# Altium footprint library Trap_PCB_V3.3.PcbLib: 21 footprints (part 1 of 2)
Each footprint in its own frame and in the unit in brackets; x right, y up, seen from the top. Pads: shape width x height; smd on the part's side, far side on the other; paste and mask are expansions set on the pad; w line width, h text height; cw(c..) or ccw(c..) is an arc to the next point about the centre after c.
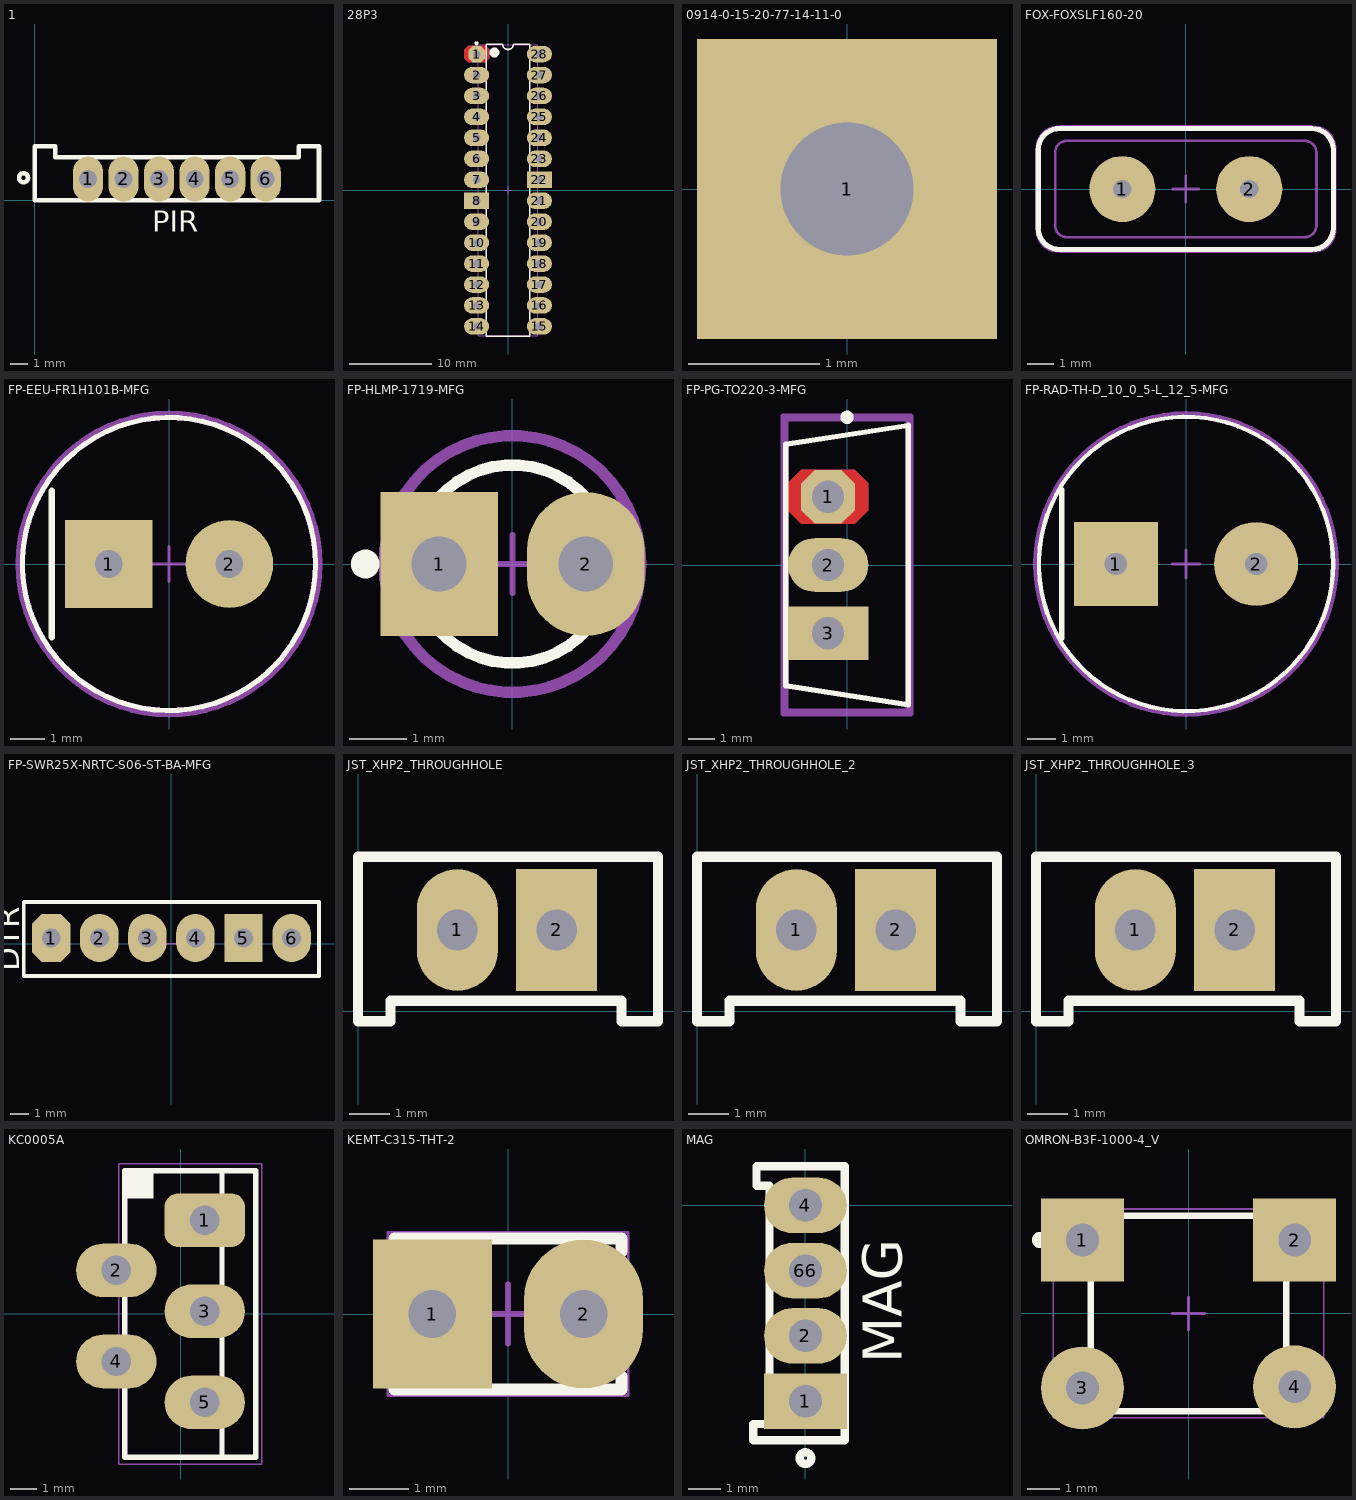
[diagram p0: the footprints below, top view; thin cyan lines are the x and y axes]

## 1 [mm]
pads (6):
  oval 1.7x2.54 hole 1: 1(3,1.2) 2(5,1.2) 3(7,1.2) 4(9,1.2) 5(11,1.2) 6(13,1.2)
Top Overlay:
  circle w0.254: c-0.635,1.27 r0.254
  lines w0.254: 0,0 16.002,0 16.002,3.048 14.859,3.048 14.859,2.413 1.143,2.413 1.143,3.048 0,3.048 0,0
  text "PIR" at 6.604,-1.778 h1.2

## 28P3 [mm] "28-Pin Plastic Dual In-Line Package (PDIP)"
height 4.58
pads (28):
  oct 2x2 hole 0.9: 1(-3.81,16.51)
  oval 3.048x2 hole 0.9: 2(-3.81,13.97) 3(-3.81,11.43) 4(-3.81,8.89) 5(-3.81,6.35) 6(-3.81,3.81) 7(-3.81,1.27) 9(-3.81,-3.81) 10(-3.81,-6.35) 11(-3.81,-8.89) 12(-3.81,-11.43) 13(-3.81,-13.97) 14(-3.81,-16.51) 15(3.81,-16.51) 16(3.81,-13.97) 17(3.81,-11.43) 18(3.81,-8.89) 19(3.81,-6.35) 20(3.81,-3.81) 21(3.81,-1.27) 23(3.81,3.81) 24(3.81,6.35) 25(3.81,8.89) 26(3.81,11.43) 27(3.81,13.97) 28(3.81,16.51)
  rect 3.048x2 hole 0.9: 8(-3.81,-1.27) 22(3.81,1.27)
Top Layer:
  region: -4.834,15.51 -5.334,16.01 -5.334,17.01 -4.834,17.51 -2.786,17.51 -2.286,17.01 -2.286,16.01 -2.786,15.51
Bottom Layer:
  region: -4.834,15.51 -5.334,16.01 -5.334,17.01 -4.834,17.51 -2.786,17.51 -2.286,17.01 -2.286,16.01 -2.786,15.51
Top Overlay:
  circle w0.25: c-3.81,17.81 r0.125
  circle w0.6: c-1.65,16.7 r0.3
  lines w0.2: -2.65,-17.7 -2.65,17.7 -0.635,17.7 ccw(c0,17.7) 0.635,17.7 2.65,17.7 2.65,-17.7 -2.65,-17.7
Top 3D Body:
  circle w0.1: c-2.7,16.75 r0.5
  lines w0.1: -3.6,-17.65 -3.6,17.65 3.6,17.65 3.6,-17.65 -3.6,-17.65
Mechanical 15:
  lines w0.1: -0.5,0 0.5,0 ; 0,-0.5 0,0.5
3D body: height 4.58, standoff 0, extent -3.6,-17.65 3.6,17.65

## 0914-0-15-20-77-14-11-0 [mil]
height 275.59
pads (1):
  rect 90x90 hole 40: 1(0,0)
3D body "pogo pin 5mm.stp": height 197.17, standoff -39.06, extent -39.37,-39.37 39.37,39.24

## FOX-FOXSLF160-20 [mm] "THD, 2-Leads, Body 11.35x4.65mm"
height 3.6
pads (2):
  round 2.54 hole 0.7: 1(-2.44,0) 2(2.44,0)
Top Overlay:
  lines w0.2: -5.675,-1.5 ccw(c-4.85,-1.5) -4.85,-2.325 4.85,-2.325 ccw(c4.85,-1.5) 5.675,-1.5 5.675,1.5 ccw(c4.85,1.5) 4.85,2.325 -4.85,2.325 ccw(c-4.85,1.5) -5.675,1.5 -5.675,-1.5 ; -5.675,-1.5 -5.675,-1.5
Top 3D Body:
  lines w0.1: -5.675,-1.5 ccw(c-4.85,-1.5) -4.85,-2.325 4.85,-2.325 ccw(c4.85,-1.5) 5.675,-1.5 5.675,1.5 ccw(c4.85,1.5) 4.85,2.325 -4.85,2.325 ccw(c-4.85,1.5) -5.675,1.5 -5.675,-1.5 ; -5.675,-1.5 -5.675,-1.5 ; -5.025,-1.4 ccw(c-4.575,-1.4) -4.575,-1.85 4.575,-1.85 ccw(c4.575,-1.4) 5.025,-1.4 5.025,1.4 ccw(c4.575,1.4) 4.575,1.85 -4.575,1.85 ccw(c-4.575,1.4) -5.025,1.4 -5.025,-1.4
Mechanical 15:
  lines w0.05: -4.85,2.425 4.85,2.425 cw(c4.9,1.55) 5.775,1.6 5.775,-1.599 cw(c4.9,-1.549) 4.869,-2.425 ; -4.831,2.425 ccw(c-4.881,1.55) -5.756,1.6 -5.756,-1.599 ccw(c-4.881,-1.549) -4.85,-2.425 4.85,-2.425
  lines w0.1: -0.5,0 0.5,0 ; 0,-0.5 0,0.5

## FP-EEU-FR1H101B-MFG [mm]
pads (2):
  rect 2.54x2.54 hole 0.8 paste-1000 mask+0: 1(-1.75,0)
  round 2.54 hole 0.8 paste-1000 mask+0: 2(1.75,0)
Top Overlay:
  circle w0.15: c0,0 r4.25
  lines w0.2: -3.4,-2.125 -3.4,2.125
Top Courtyard:
  lines w0.2: -4.35,0 cw(c0,0) 4.35,0 cw(c0,0) -4.35,0
Top Assembly:
  text ".Designator" at 0,0.225 h1.2
Top 3D Body:
  circle w0.15: c0,0 r4.25
Top Component Center:
  lines w0.1: -0.5,0 0.5,0 ; 0,-0.5 0,0.5

## FP-HLMP-1719-MFG [mm]
pads (2):
  rect 2.032x2.5 hole 0.95 paste-1000 mask+0: 1(-1.27,0)
  oval 2.032x2.5 hole 0.95 paste-1000 mask+0: 2(1.27,0)
Top Overlay:
  circle w0.25: c-2.55,0 r0.125
  lines w0.2: -1.3,-1.12 ccw(c0,-0.001) 1.3,-1.12 ; -1.3,1.12 cw(c0,0.001) 1.3,1.12
Top Courtyard:
  lines w0.2: -2.223,0 cw(c0,0) 2.223,0 cw(c0,0) -2.223,0
Top Assembly:
  text ".Designator" at 0,0.225 h1.2
Top 3D Body:
  circle w0.15: c0,0 r1.715
Top Component Center:
  lines w0.1: -0.5,0 0.5,0 ; 0,-0.5 0,0.5

## FP-PG-TO220-3-MFG [mm]
height 7
pads (3):
  oct 2x2 hole 1.2 paste-1000 mask+0: 1(-0.705,2.54)
  oval 3x2 hole 1.2 paste-1000 mask+0: 2(-0.705,0)
  rect 3x2 hole 1.2 paste-1000 mask+0: 3(-0.705,-2.54)
Top Layer:
  region: -1.705,1.54 -2.205,2.04 -2.205,3.04 -1.705,3.54 0.295,3.54 0.795,3.04 0.795,2.04 0.295,1.54
Bottom Layer:
  region: -1.705,1.54 -2.205,2.04 -2.205,3.04 -1.705,3.54 0.295,3.54 0.795,3.04 0.795,2.04 0.295,1.54
Top Overlay:
  circle w0.25: c0,5.5 r0.125
  lines w0.2: -2.275,-4.5 2.275,-5.2 2.275,5.2 -2.275,4.5 -2.275,-4.5
Top Courtyard:
  lines w0.2: -2.375,-5.55 2.375,-5.55 2.375,5.55 -2.375,5.55 -2.375,-5.55
Top Assembly:
  lines w0.2: -2.375,-5.55 2.375,-5.55 2.375,5.55 -2.375,5.55 -2.375,-5.55
  text ".Designator" at 0,-0.001 h1
Top 3D Body:
  lines w0.2: -2.275,-5.45 2.275,-5.45 2.275,5.45 -2.275,5.45 -2.275,-5.45
Top Component Center:
  lines w0.1: -0.5,0 0.5,0 ; 0,-0.5 0,0.5
3D body "Trans_Infineon_IRL2505PBF_eec.STEP": height 0.25, standoff 0, extent -2.375,-5.55 2.375,5.55

## FP-RAD-TH-D_10_0_5-L_12_5-MFG [mm]
height 7.87
pads (2):
  rect 3x3 hole 0.8 paste-1000 mask+0: 1(-2.5,0)
  round 3 hole 0.8 paste-1000 mask+0: 2(2.5,0)
Top Overlay:
  circle w0.15: c0,0 r5.25
  lines w0.2: -4.425,-2.65 -4.425,2.65
Top Courtyard:
  lines w0.2: -5.35,0 ccw(c0,0) 5.35,0 ccw(c0,0) -5.35,0
Top Assembly:
  text ".Designator" at 0,0.188 h1
Top 3D Body:
  circle w0.15: c0,0 r5.25
Top Component Center:
  lines w0.1: -0.5,0 0.5,0 ; 0,-0.5 0,0.5
3D body "Cap_Panasonic_EEUTA1H101_eec.STEP": height 0.25, standoff 0, extent -5.35,-5.35 5.35,5.35

## FP-SWR25X-NRTC-S06-ST-BA-MFG [mm]
pads (6):
  oct 2.032x2.54 hole 1 paste-1000 mask+0: 1(-6.35,0.3)
  oval 2.032x2.54 hole 1 paste-1000 mask+0: 2(-3.81,0.3) 3(-1.27,0.3) 4(1.27,0.3) 6(6.35,0.3)
  rect 2.032x2.54 hole 1 paste-1000 mask+0: 5(3.81,0.3)
Top Overlay:
  lines w0.2: -7.8,-1.7 7.8,-1.7 7.8,2.2 -7.8,2.2 -7.8,-1.7
  text "DTR" at -8.054,-1.446 h1.2
Top Assembly:
  text ".Designator" at 0,0.225 h1.2
Top Component Center:
  lines w0.1: -0.5,0 0.5,0
3D body: height 0.25, standoff 0, extent -7.9,-3.15 7.9,3.15

## JST_XHP2_THROUGHHOLE [mm]
height 7.87
pads (2):
  oval 2x3 hole 1: 1(2.45,2)
  rect 2x3 hole 1: 2(4.9,2)
Top Overlay:
  lines w0.254: 0,-0.254 0,3.81 7.4,3.81 7.4,-0.254 6.5,-0.254 6.5,0.254 0.8,0.254 0.8,-0.254 0,-0.254

## JST_XHP2_THROUGHHOLE_2 [mm]
pads (2):
  oval 2x3 hole 1: 1(2.45,2)
  rect 2x3 hole 1: 2(4.9,2)
Top Overlay:
  lines w0.254: 0,-0.254 0.8,-0.254 0.8,0.254 6.5,0.254 6.5,-0.254 7.4,-0.254 7.4,3.81 0,3.81 0,-0.254

## JST_XHP2_THROUGHHOLE_3 [mm]
pads (2):
  oval 2x3 hole 1: 1(2.45,2)
  rect 2x3 hole 1: 2(4.9,2)
Top Overlay:
  lines w0.254: 0,-0.254 0,3.81 7.4,3.81 7.4,-0.254 6.5,-0.254 6.5,0.254 0.8,0.254 0.8,-0.254 0,-0.254

## KC0005A [mm] "FM, 5-Leads, Body 10.16x8.46mm, Pitch 1.7mm"
height 16.51
pads (5):
  rrect50% 3x2 hole 1.1: 1(0.889,3.498)
  oval 3x2 hole 1.1: 2(-2.413,1.622) 3(0.889,0.098) 4(-2.413,-1.778) 5(0.889,-3.302)
Top Overlay:
  rectangle: -2.127,4.313 -1.016,5.345
  lines w0.2: 1.533,-5.355 1.533,5.345 ; -2.105,-5.355 2.795,-5.355 2.795,5.345 -2.105,5.345 -2.105,-5.355
Top Courtyard:
  text ".Designator" at -0.508,1.646 h1.02
Top 3D Body:
  lines w0.1: 1.52,-5.355 1.52,5.345 ; -2.08,-5.355 -2.08,5.345 2.77,5.345 2.77,-5.355 -2.08,-5.355
Mechanical 15:
  lines w0.05: -2.33,-5.605 -2.33,5.595 3.02,5.595 3.02,-5.605 -2.33,-5.605
  lines w0.1: -0.5,-0.005 0.5,-0.005 ; 0,-0.505 0,0.495
3D body: height 0, standoff -1.6, extent -0.23,2.985 0.23,3.815
3D body: height 0, standoff -1.6, extent -0.23,1.285 0.23,2.115
3D body: height 0, standoff -1.6, extent -0.23,-0.415 0.23,0.415
3D body: height 0, standoff -1.6, extent -0.23,-2.115 0.23,-1.285
3D body: height 0, standoff -1.6, extent -0.23,-3.815 0.23,-2.985
3D body: height 10.21, standoff 0, extent -2.08,-5.355 2.77,5.345
3D body: height 11.79, standoff 10.21, extent 1.52,-5.08 2.77,5.07
3D body: height 11.83, standoff 11.79, extent 1.52,0.371 2.77,5.07
3D body: height 11.83, standoff 11.79, extent 1.52,-5.08 2.77,-0.381
3D body: height 15.64, standoff 15.6, extent 1.52,0.371 2.77,5.07
3D body: height 15.64, standoff 15.6, extent 1.52,-5.08 2.77,-0.381
3D body: height 11.94, standoff 11.82, extent 1.52,0.732 2.77,5.07
3D body: height 11.94, standoff 11.82, extent 1.52,-5.08 2.77,-0.742
3D body: height 15.6, standoff 15.49, extent 1.52,0.732 2.77,5.07
3D body: height 15.6, standoff 15.49, extent 1.52,-5.08 2.77,-0.742
3D body: height 12.11, standoff 11.93, extent 1.52,1.064 2.77,5.07
3D body: height 12.11, standoff 11.93, extent 1.52,-5.08 2.77,-1.074
3D body: height 15.49, standoff 15.31, extent 1.52,1.064 2.77,5.07
3D body: height 15.49, standoff 15.31, extent 1.52,-5.08 2.77,-1.074
3D body: height 12.35, standoff 12.11, extent 1.52,1.356 2.77,5.07
3D body: height 12.35, standoff 12.11, extent 1.52,-5.08 2.77,-1.366
3D body: height 15.32, standoff 15.07, extent 1.52,1.356 2.77,5.07
3D body: height 15.32, standoff 15.07, extent 1.52,-5.08 2.77,-1.366
3D body: height 12.65, standoff 12.35, extent 1.52,1.596 2.77,5.07
3D body: height 12.65, standoff 12.35, extent 1.52,-5.08 2.77,-1.606
3D body: height 15.08, standoff 14.78, extent 1.52,1.596 2.77,5.07
3D body: height 15.08, standoff 14.78, extent 1.52,-5.08 2.77,-1.606
3D body: height 12.98, standoff 12.64, extent 1.52,1.773 2.77,5.07
3D body: height 12.98, standoff 12.64, extent 1.52,-5.08 2.77,-1.783
3D body: height 14.78, standoff 14.45, extent 1.52,1.773 2.77,5.07
3D body: height 14.78, standoff 14.45, extent 1.52,-5.08 2.77,-1.783
3D body: height 13.34, standoff 12.97, extent 1.52,1.883 2.77,5.07
3D body: height 13.34, standoff 12.97, extent 1.52,-5.08 2.77,-1.893
3D body: height 14.45, standoff 14.09, extent 1.52,1.883 2.77,5.07
3D body: height 14.45, standoff 14.09, extent 1.52,-5.08 2.77,-1.893
3D body: height 13.71, standoff 13.33, extent 1.52,1.92 2.77,5.07
3D body: height 13.71, standoff 13.33, extent 1.52,-5.08 2.77,-1.93
3D body: height 14.09, standoff 13.71, extent 1.52,1.92 2.77,5.07
3D body: height 14.09, standoff 13.71, extent 1.52,-5.08 2.77,-1.93
3D body: height 16.51, standoff 15.64, extent 1.52,-5.08 2.77,5.07

## KEMT-C315-THT-2 [mm] "THD, 2-Leads, Body 3.81x2.54mm"
height 4.66
pads (2):
  rect 2x2.5 hole 0.8: 1(-1.27,0)
  oval 2x2.5 hole 0.8: 2(1.27,0)
Top Overlay:
  lines w0.2: -1.905,-1.05 -1.905,-1.27 1.905,-1.27 1.905,-1.05 ; -1.905,1.05 -1.905,1.27 1.905,1.27 1.905,1.05
Top 3D Body:
  lines w0.1: -1.905,-1.27 1.905,-1.27 1.905,1.27 -1.905,1.27 -1.905,-1.27
Mechanical 15:
  lines w0.05: -2.02,-1.37 -2.02,1.37 2.02,1.37 2.02,-1.37 -2.02,-1.37
  lines w0.1: -0.5,0 0.5,0 ; 0,-0.5 0,0.5
3D body: height 0, standoff -7, extent -1.524,-0.254 -1.015,0.255
3D body: height 0, standoff -7, extent 1.016,-0.254 1.525,0.255
3D body: height 4.66, standoff 0, extent -1.905,-1.27 1.905,1.27

## MAG [mm]
pads (4):
  rect 2.54x1.7 hole 1: 1(0,-6)
  oval 2.54x1.7 hole 1: 2(0,-4) 4(0,0) 66(0,-2)
Top Overlay:
  circle w0.254: c0,-7.747 r0.18
  lines w0.254: -1.6,-7.2 1.2,-7.2 1.2,1.2 -1.5,1.2 -1.5,0.6 -1.1,0.6 -1.1,-6.7 -1.6,-6.7 -1.6,-7.2
  text "MAG" at 2.946,-4.846 h1.2

## OMRON-B3F-1000-4_V [mm] "TH, 4-Leads, Body 6x6mm"
height 4.5
pads (4):
  rect 2.54x2.54 hole 1 paste+0: 1(-3.25,2.25) 2(3.25,2.25)
  round 2.54 hole 1 paste+0: 3(-3.25,-2.286) 4(3.25,-2.25)
Top Overlay:
  circle w0.25: c-4.55,2.25 r0.125
  lines w0.2: -3,-1.127 -3,1.1 ; -2.378,-3 2.378,-3 ; -2.1,3 2.378,3 ; 3,-1.127 3,1.127
Top 3D Body:
  lines w0.1: -3,-3 -3,3 3,3 3,-3 -3,-3
Mechanical 15:
  lines w0.05: -4.15,-3.2 -4.15,3.2 4.15,3.2 4.15,-3.2 -4.15,-3.2
  lines w0.1: -0.5,0 0.5,0 ; 0,-0.5 0,0.5
3D body: height 4.5, standoff 0, extent -3,-3 3,3